# EAGLE library part MKL02Z32VFM4 (library freescale-mkl02)
IC, MCU, 32BIT, CORTEX M0+, 48MHZ, QFN-32
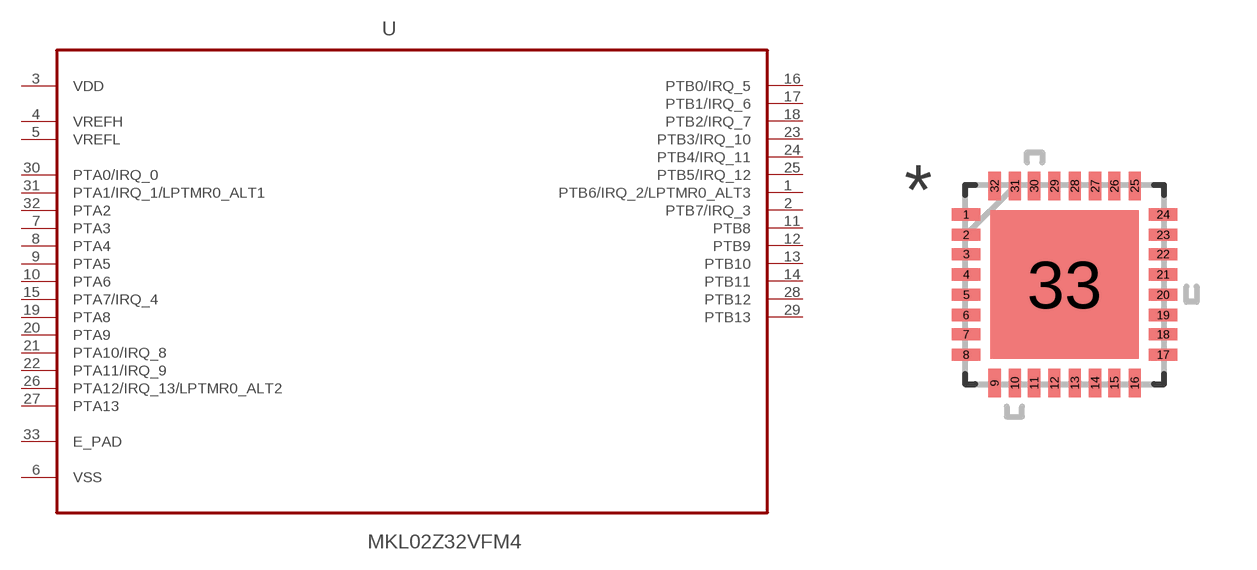
[diagram p0: symbol with the pads of QFN50P500X500X100-33N; footprint QFN50P500X500X100-33N]

Designator prefix U

## MKL02Z32VFM4 (MPN: MKL02Z32VFM4; OC_FARNELL: 2321480; OC_NEWARK: 61W9888; PACKAGE: QFN-32; SUPPLIER: FREESCALE SEMICONDUCTOR)  [QFN50P500X500X100-33N]
1  PTB6/IRQ_2/LPTMR0_ALT3
2  PTB7/IRQ_3
3  VDD  pwr
4  VREFH  pas
5  VREFL  pas
6  VSS  pas
7  PTA3
8  PTA4
9  PTA5
10  PTA6
11  PTB8
12  PTB9
13  PTB10
14  PTB11
15  PTA7/IRQ_4
16  PTB0/IRQ_5
17  PTB1/IRQ_6
18  PTB2/IRQ_7
19  PTA8
20  PTA9
21  PTA10/IRQ_8
22  PTA11/IRQ_9
23  PTB3/IRQ_10
24  PTB4/IRQ_11
25  PTB5/IRQ_12
26  PTA12/IRQ_13/LPTMR0_ALT2
27  PTA13
28  PTB12
29  PTB13
30  PTA0/IRQ_0
31  PTA1/IRQ_1/LPTMR0_ALT1
32  PTA2
33  E_PAD  pas

## Footprint QFN50P500X500X100-33N (pad centres in mm)
smd 0.711 x 0.305: 1 -2.464,1.753; 2 -2.464,1.245; 3 -2.464,0.762; 4 -2.464,0.254; 5 -2.464,-0.254; 6 -2.464,-0.762; 7 -2.464,-1.245; 8 -2.464,-1.753; 17 2.464,-1.753; 18 2.464,-1.245; 19 2.464,-0.762; 20 2.464,-0.254; 21 2.464,0.254; 22 2.464,0.762; 23 2.464,1.245; 24 2.464,1.753
smd 0.305 x 0.711: 9 -1.753,-2.464; 10 -1.245,-2.464; 11 -0.762,-2.464; 12 -0.254,-2.464; 13 0.254,-2.464; 14 0.762,-2.464; 15 1.245,-2.464; 16 1.753,-2.464; 25 1.753,2.464; 26 1.245,2.464; 27 0.762,2.464; 28 0.254,2.464; 29 -0.254,2.464; 30 -0.762,2.464; 31 -1.245,2.464; 32 -1.753,2.464
smd 3.708 x 3.708: 33 0,0